# EAGLE library part 8X8LED (library LED)
8x8 Matrix LED module If you want more information, please go to せんごくネット通販 <www.sengoku.co.jp> and serch EEHD-4PVJ.
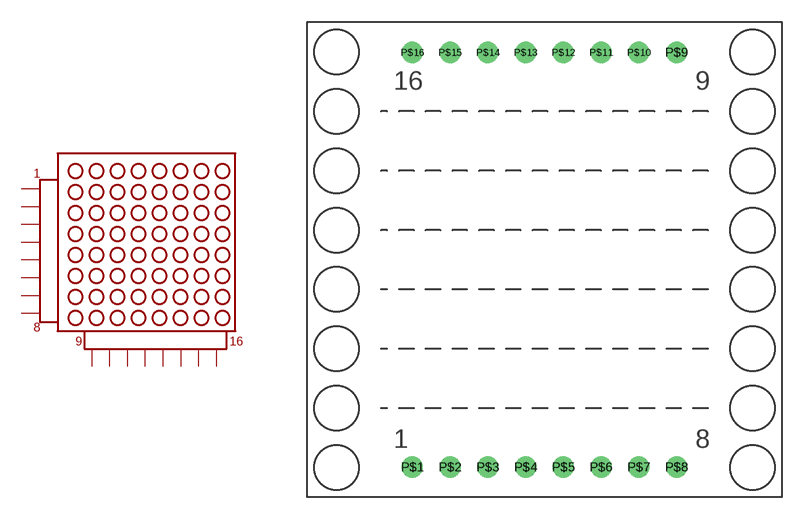
[diagram p0: symbol with the pads of 8X8MATRIX; footprint 8X8MATRIX]

Designator prefix -

## 8X8LED  [8X8MATRIX]
P$1  P$1  in
P$2  P$2  in
P$3  P$3  in
P$4  P$4  in
P$5  P$5  in
P$6  P$6  in
P$7  P$7  in
P$8  P$8  in
P$9  P$9  in
P$10  P$10  in
P$11  P$11  in
P$12  P$12  in
P$13  P$13  in
P$14  P$14  in
P$15  P$15  in
P$16  P$16  in

## Footprint 8X8MATRIX (pad centres in mm)
drill 0.7 pad 1.422: P$1 -8.89,-13.97; P$2 -6.35,-13.97; P$3 -3.81,-13.97; P$4 -1.27,-13.97; P$5 1.27,-13.97; P$6 3.81,-13.97; P$7 6.35,-13.97; P$8 8.89,-13.97; P$9 8.89,13.97; P$10 6.35,13.97; P$11 3.81,13.97; P$12 1.27,13.97; P$13 -1.27,13.97; P$14 -3.81,13.97; P$15 -6.35,13.97; P$16 -8.89,13.97